# Altium schematic symbol library Misc.SchLib: 22 symbols
Pins are listed as number, name and electrical type; pins without a type are passive.

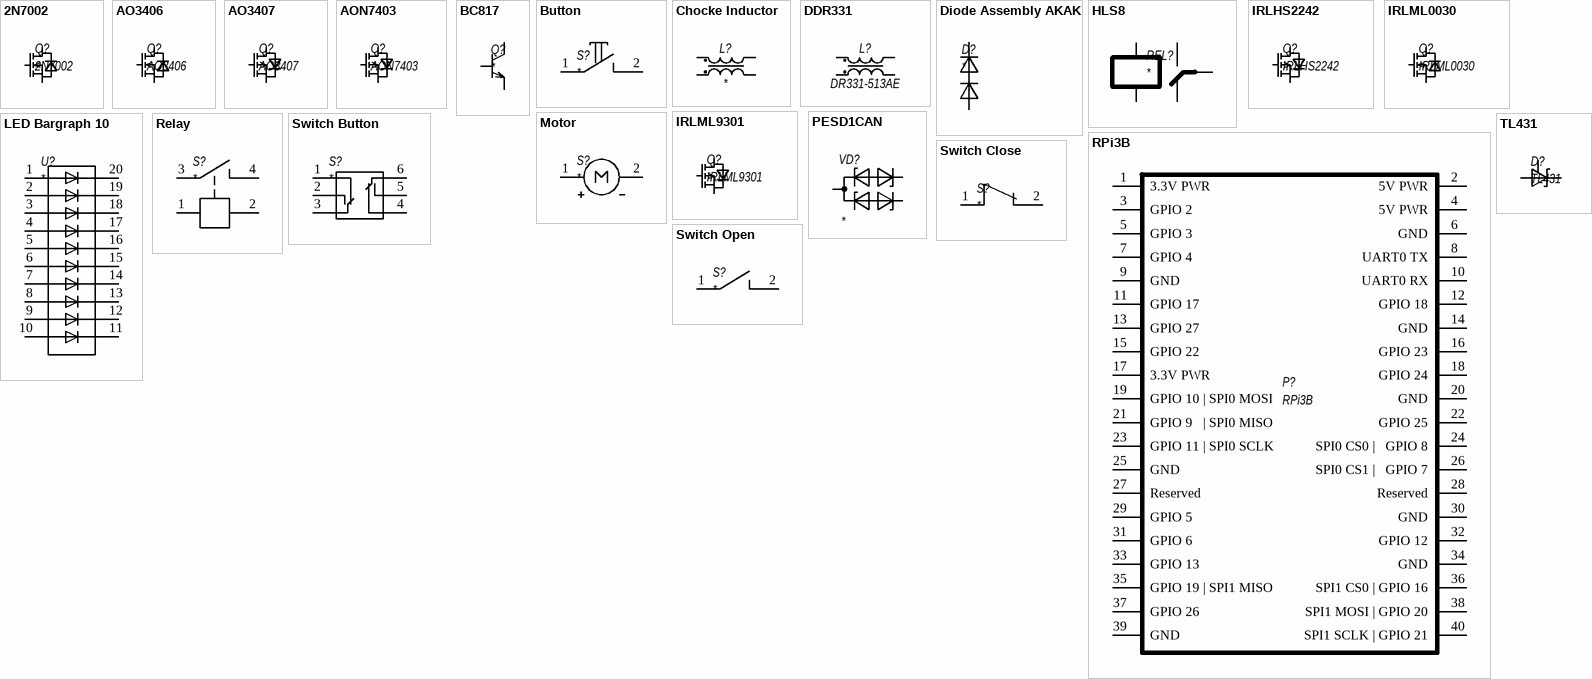
[diagram p0: symbols 2N7002 to TL431]

## 2N7002
designator Q?
60V 300mA 5Ohm; Value: 2N7002
footprint SOT23 (SOT23, 3-Leads, Body 2.90x2.30mm, Pitch 0.95mm, IPC Medium Density); pin to pad D>3 G>1 S>2
pins: D, G, S

## AO3406
designator Q?
N 30V 3.6A 50mOhm ±20V; Value: AO3406
footprint SOT23 (SOT23, 3-Leads, Body 2.90x2.30mm, Pitch 0.95mm, IPC Medium Density); pin to pad D>3 G>1 S>2
pins: D, G, S

## AO3407
designator Q?
P 30V 4.1A 52mOhm ±20V; Value: AO3407
footprint SOT23 (SOT23, 3-Leads, Body 2.90x2.30mm, Pitch 0.95mm, IPC Medium Density); pin to pad D>3 G>1 S>2
pins: D, G, S

## AON7403
designator Q?
P 30V 29A 36mOhm ±25V; Value: AON7403
footprint DFN8 3x3A_8L_EP1_P (AON2703); pin to pad D>5 G>4 S>1 S2>3 S3>2
pins: D, G, S, S2 S, S3 S

## BC817
designator Q?
footprint SOT23 (SOT23, 3-Leads, Body 2.90x2.30mm, Pitch 0.95mm, IPC Medium Density); pin to pad B>1 E>2 K>3
pins: B, E, K

## Button
designator S?
pins: 1, 2

## Chocke Inductor
designator L?
footprint DR331
pins: 1, 2, 3, 4

## DDR331
designator L?, comment DR331-513AE
Value: DR331-513AE
footprint DR331
pins: 1, 2, 3, 4

## Diode Assembly AKAK
designator D?
Value: *
footprint SOT23 (SOT23, 3-Leads, Body 2.90x2.30mm, Pitch 0.95mm, IPC Medium Density); pin to pad A>1 AK>3 K>2
pins: A, AK, K

## HLS8
designator REL?
footprint HLS8 (HLS8 Relay); pin to pad NC>4 NO>3 PWR1>1 PWR2>2 SW>5
pins: NC, NO, PWR1, PWR2, SW

## IRLHS2242
designator Q?
P 20V 8A 53mOhm ±12V; Value: IRLHS2242
footprint PQFN2x2 (PQFN, 6-Leads, Body 2.00x2.00mm, Pitch 0.65mm, Thermal Pad 1.20x1.00mm, IPC Medium Density); pin to pad D>1 D2>2 D3>5 D4>6 D5>7 G>3 S>4 S2>8
pins: D, D2 D, D3 D, D4 D, D5 D, G, S, S2 S

## IRLML0030
designator Q?
N 30V 5.3A 27mOhm ±20V; Replacement: DMN3404; Value: IRLML0030
footprint SOT23 (SOT23, 3-Leads, Body 2.90x2.30mm, Pitch 0.95mm, IPC Medium Density); pin to pad D>3 G>1 S>2
pins: D, G, S

## IRLML9301
designator Q?
P 30V 3.6A 64mOhm ±20V; Replacement: DMP3099; Value: IRLML9301
footprint SOT23 (SOT23, 3-Leads, Body 2.90x2.30mm, Pitch 0.95mm, IPC Medium Density); pin to pad D>3 G>1 S>2
pins: D, G, S

## LED Bargraph 10
designator U?
footprint BAR_GRAPH_10
pins: 1, 2, 3, 4, 5, 6, 7, 8, 9, 10, 11, 12, 13, 14, 15, 16, 17, 18, 19, 20

## Motor
designator S?
pins: 1, 2

## PESD1CAN
designator VD?
SOT-23 Dual CAN protection from ElectroStatic Discharge (ESD) Zener Diodes 24V 200W Peak Power
footprint SOT23 (SOT23, 3-Leads, Body 2.9x1.3mm, Pitch 0.95mm, Lead Span 2.5mm)
pins: 1 A, 2 A, 3 K

## Relay
designator S?
pins: 1, 2, 3, 4

## RPi3B
designator P?
Raspberry Pi 3 B 40 pin Connector
footprint Header 20x2
footprint Header 20x2 Female Bottom
pins: 1 3.3V PWR, 2 5V PWR, 3 GPIO 2, 4 5V PWR, 5 GPIO 3, 6 GND, 7 GPIO 4, 8 UART0 TX, 9 GND, 10 UART0 RX, 11 GPIO 17, 12 GPIO 18, 13 GPIO 27, 14 GND, 15 GPIO 22, 16 GPIO 23, 17 3.3V PWR, 18 GPIO 24, 19 GPIO 10 | SPI0 MOSI, 20 GND, 21 GPIO 9   | SPI0 MISO, 22 GPIO 25, 23 GPIO 11 | SPI0 SCLK, 24 SPI0 CS0 |   GPIO 8, 25 GND, 26 SPI0 CS1 |   GPIO 7, 27 Reserved, 28 Reserved, 29 GPIO 5, 30 GND, 31 GPIO 6, 32 GPIO 12, 33 GPIO 13, 34 GND, 35 GPIO 19 | SPI1 MISO, 36 SPI1 CS0 | GPIO 16, 37 GPIO 26, 38 SPI1 MOSI | GPIO 20, 39 GND, 40 SPI1 SCLK | GPIO 21

## Switch Button
designator S?
footprint SWITCH BUTTON
pins: 1, 2, 3, 4, 5, 6

## Switch Close
designator S?
pins: 1, 2

## Switch Open
designator S?
pins: 1, 2

## TL431
designator D?
Value: TL431
footprint SOT23 (SOT23, 3-Leads, Body 2.90x2.30mm, Pitch 0.95mm, IPC Medium Density); pin to pad A>3 C>2 REF>1
pins: A, C, REF